# Altium schematic symbol library BFQ19S.SchLib: 1 symbol
Pins are listed as number, name and electrical type; pins without a type are passive.

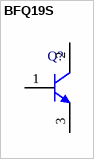
[diagram p0: symbol BFQ19S]

## BFQ19S
designator Q?
NPN Silicon RF Transistor, 15 V VCEO, 210 mA IC, 11.5 dB Gmax, SOT89, Green; Manufacturer: Infineon; PartNumber: BFQ19S; Gmax (typ): 11.5 dB; Green: yes; Group: For low frequencies, e.g. VHF/UHF; IC (max): 210 mA; NFmin (typ): 1.8 dB; Ptot (max): 1.0 W; VCEO (max): 15 V; DatasheetVersion: Jul-2012; PackageReference: SOT89; PackageDescription: 3-Pin Small Outline Transistor Package, 2.5 x 4.5 mm Body; Supplier 1: Mouser; Supplier Part Number 1: N/A; Mounting Technology: Surface Mount; ComponentLink1Description: Manufacturer URL; ComponentLink1URL: http://www.infineon.com/; ComponentLink2Description: Datasheet; ComponentLink2URL: http://www.infineon.com/dgdl/Infineon_LNA_BFQ19S.pdf?folderId=db3a30431400ef68011425b1354605c1&fileId=db3a30431400ef6801142683f6870630&location=en.Products.RF.RF_Transistors_.High_Linearity_Si-_and_SiGe_C-Transistors_for_use_up_to_6_GHz.DATASHEET.Infineon_LNA_BFQ19S.pdf; ComponentLink3Description: Package Specification; ComponentLink3URL: http://www.infineon.com/dgdl/SOT89-Package_Overview.pdf?folderId=db3a30431936bc4b01195371b8363cff&fileId=db3a30431936bc4b0119537ed61d3d22
footprint INF-SOT89_N (SOT89, 3-Leads, Body 4.5x2.5 mm, Pitch 1.5 mm, IPC Medium Density)
footprint INF-SOT89_L (SOT89, 3-Leads, Body 4.5x2.5 mm, Pitch 1.5 mm, IPC High Density)
footprint INF-SOT89_M (SOT89, 3-Leads, Body 4.5x2.5 mm, Pitch 1.5 mm, IPC Low Density)
pins: 1 B, 2 C, 3 E